# EAGLE library part MSP430F22*4IDA (library texas)
MIXED SIGNAL MICROCONTROLLER Source: http://focus.ti.com/lit/ds/symlink/msp430f2274.pdf
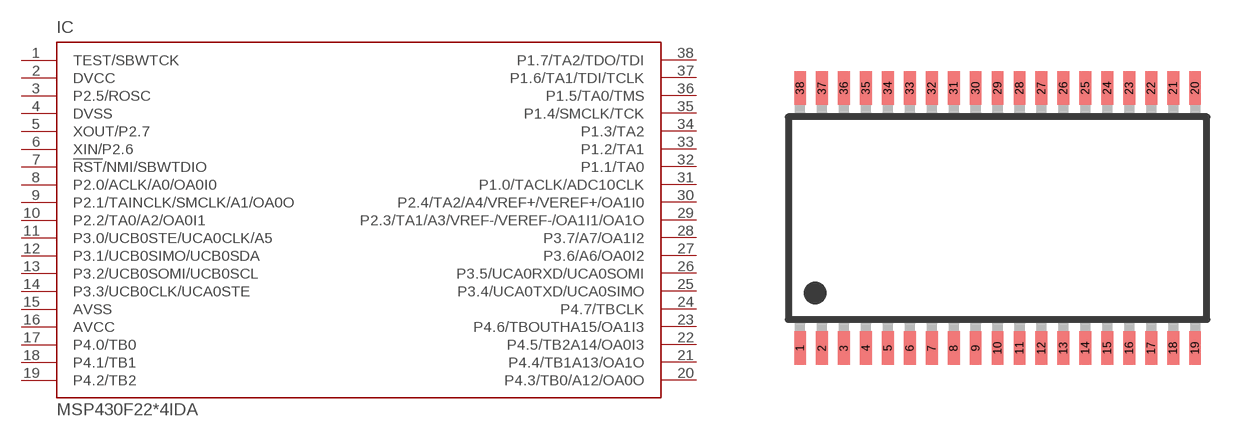
[diagram p61: symbol with the pads of TSSOP38_R-PDSO-G38-DA; footprint TSSOP38_R-PDSO-G38-DA]

Designator prefix IC

## MSP430F2234IDA, MSP430F2254IDA, MSP430F2274IDA  [TSSOP38_R-PDSO-G38-DA]
1  TEST/SBWTCK  in
2  DVCC  pwr
3  P2.5/ROSC
4  DVSS  pwr
5  XOUT/P2.7
6  XIN/P2.6
7  !RST!/NMI/SBWTDIO  in
8  P2.0/ACLK/A0/OA0I0
9  P2.1/TAINCLK/SMCLK/A1/OA0O
10  P2.2/TA0/A2/OA0I1
11  P3.0/UCB0STE/UCA0CLK/A5
12  P3.1/UCB0SIMO/UCB0SDA
13  P3.2/UCB0SOMI/UCB0SCL
14  P3.3/UCB0CLK/UCA0STE
15  AVSS  pwr
16  AVCC  pwr
17  P4.0/TB0
18  P4.1/TB1
19  P4.2/TB2
20  P4.3/TB0/A12/OA0O
21  P4.4/TB1A13/OA1O
22  P4.5/TB2A14/OA0I3
23  P4.6/TBOUTHA15/OA1I3
24  P4.7/TBCLK
25  P3.4/UCA0TXD/UCA0SIMO
26  P3.5/UCA0RXD/UCA0SOMI
27  P3.6/A6/OA0I2
28  P3.7/A7/OA1I2
29  P2.3/TA1/A3/VREF-/VEREF-/OA1I1/OA1O
30  P2.4/TA2/A4/VREF+/VEREF+/OA1I0
31  P1.0/TACLK/ADC10CLK
32  P1.1/TA0
33  P1.2/TA1
34  P1.3/TA2
35  P1.4/SMCLK/TCK
36  P1.5/TA0/TMS
37  P1.6/TA1/TDI/TCLK
38  P1.7/TA2/TDO/TDI

## Footprint TSSOP38_R-PDSO-G38-DA (pad centres in mm)
TSSOP 38 DA (R-PDSO-G38) Auto generated by make-symbol-device-package-bsdl.ulp Rev. 28 Source: http://focus.ti.com/lit/ds/symlink/msp430f2274.pdf
smd 0.35 x 1: 1 -5.85,-3.85; 2 -5.2,-3.85; 3 -4.55,-3.85; 4 -3.9,-3.85; 5 -3.25,-3.85; 6 -2.6,-3.85; 7 -1.95,-3.85; 8 -1.3,-3.85; 9 -0.65,-3.85; 10 0,-3.85; 11 0.65,-3.85; 12 1.3,-3.85; 13 1.95,-3.85; 14 2.6,-3.85; 15 3.25,-3.85; 16 3.9,-3.85; 17 4.55,-3.85; 18 5.2,-3.85; 19 5.85,-3.85; 20 5.85,3.85; 21 5.2,3.85; 22 4.55,3.85; 23 3.9,3.85; 24 3.25,3.85; 25 2.6,3.85; 26 1.95,3.85; 27 1.3,3.85; 28 0.65,3.85; 29 0,3.85; 30 -0.65,3.85; 31 -1.3,3.85; 32 -1.95,3.85; 33 -2.6,3.85; 34 -3.25,3.85; 35 -3.9,3.85; 36 -4.55,3.85; 37 -5.2,3.85; 38 -5.85,3.85